# Altium footprint library M20-7910242R.PcbLib: 1 footprints
Each footprint in its own frame and in the unit in brackets; x right, y up, seen from the top. Pads: shape width x height; smd on the part's side, far side on the other; paste and mask are expansions set on the pad; w line width, h text height; cw(c..) or ccw(c..) is an arc to the next point about the centre after c.
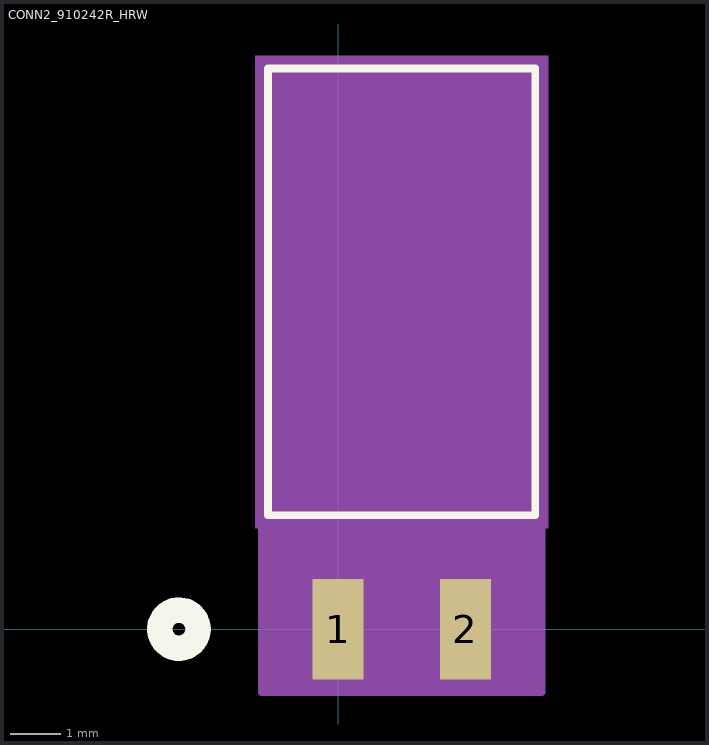
[diagram p0: the footprint, top view; thin cyan lines are the x and y axes]

## CONN2_910242R_HRW [mil]
pads (2):
  rect 40x79 smd paste+0 mask+0: 1(0,0) 2(100,0)
Top Overlay:
  circle w20: c-125,0 r15
  lines w6: -55,89.36 155,89.36 155,440.36 -55,440.36 -55,89.36
Bottom Overlay:
  circle w20: c-125,0 r15
Mechanical 5:
  region: -65,450.36 165,450.36 165,79.36 -65,79.36
Mechanical 13:
  circle w20: c0,75 r15
  lines w1: -50,94.36 150,94.36 150,435.36 -50,435.36 -50,94.36
Mechanical 15:
  region: 160,445.36 -60,445.36 -60,-49.5 160,-49.5
  lines w6: -60,-49.5 -60,445.36 160,445.36 160,-49.5 -60,-49.5
3D body: height 10, standoff 0, extent 0,0 10,10